# Altium schematic symbol library deepshark_sch_lib.SchLib: 8 symbols
Pins are listed as number, name and electrical type; pins without a type are passive.

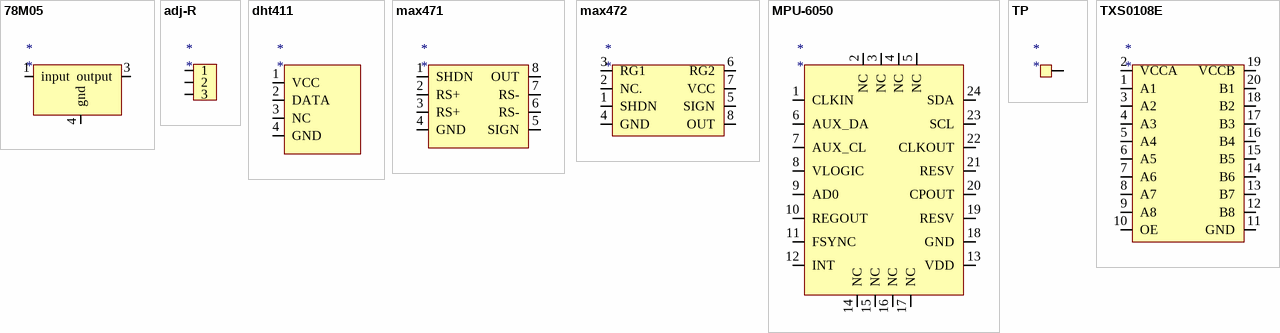
[diagram p0: symbols 78M05 to TXS0108E]

## 78M05
designator *
pins: 1 input, 3 output, 4 gnd

## adj-R
designator *
pins: 1, 2, 3

## dht411
designator *
pins: 1 VCC, 2 DATA, 3 NC, 4 GND

## max471
designator *
pins: 1 SHDN, 2 RS+, 3 RS+, 4 GND, 5 SIGN, 6 RS-, 7 RS-, 8 OUT

## max472
designator *
pins: 1 SHDN, 2 NC., 3 RG1, 4 GND, 5 SIGN, 6 RG2, 7 VCC, 8 OUT

## MPU-6050
designator *
pins: 1 CLKIN, 2 NC, 3 NC, 4 NC, 5 NC, 6 AUX_DA, 7 AUX_CL, 8 VLOGIC, 9 AD0, 10 REGOUT, 11 FSYNC, 12 INT, 13 VDD, 14 NC, 15 NC, 16 NC, 17 NC, 18 GND, 19 RESV, 20 CPOUT, 21 RESV, 22 CLKOUT, 23 SCL, 24 SDA

## TP
designator *
pins: 1

## TXS0108E
designator *
pins: 1 A1, 2 VCCA, 3 A2, 4 A3, 5 A4, 6 A5, 7 A6, 8 A7, 9 A8, 10 OE, 11 GND, 12 B8, 13 B7, 14 B6, 15 B5, 16 B4, 17 B3, 18 B2, 19 VCCB, 20 B1